# EAGLE library part EPG.00.304.HLN (library lplemo)
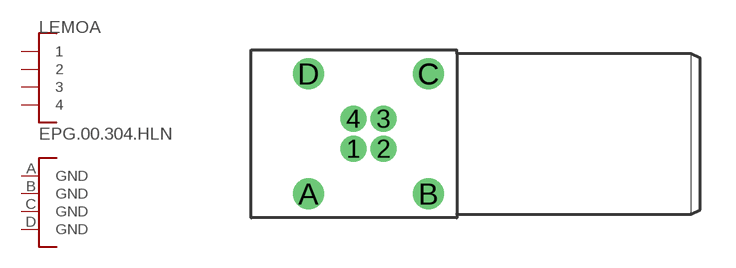
[diagram p2: symbol with the pads of P18-EPG-XBG-XRB.00.304; footprint P18-EPG-XBG-XRB.00.304]

Designator prefix LEMO; gates A=C4 B=GND4

## EPG.00.304.HLN  [P18-EPG-XBG-XRB.00.304]
1  A:1
2  A:2
3  A:3
4  A:4
A  B:GND  pwr
B  B:GND  pwr
C  B:GND  pwr
D  B:GND  pwr

## Footprint P18-EPG-XBG-XRB.00.304 (pad centres in mm)
drill 0.6 round: 1 -3.175,-0.635; 2 -1.905,-0.635; 3 -1.905,0.635; 4 -3.175,0.635
drill 0.8 round: A -5.08,-2.54; B 0,-2.54; C 0,2.54; D -5.08,2.54